# EAGLE library part 802200(DELCOMUSB) (library QuantumOptics)
802200 USB Peripheral, Delcom, 12-bit USB to parallel interface, quick and dirty USB 1.1 peripheral solution.
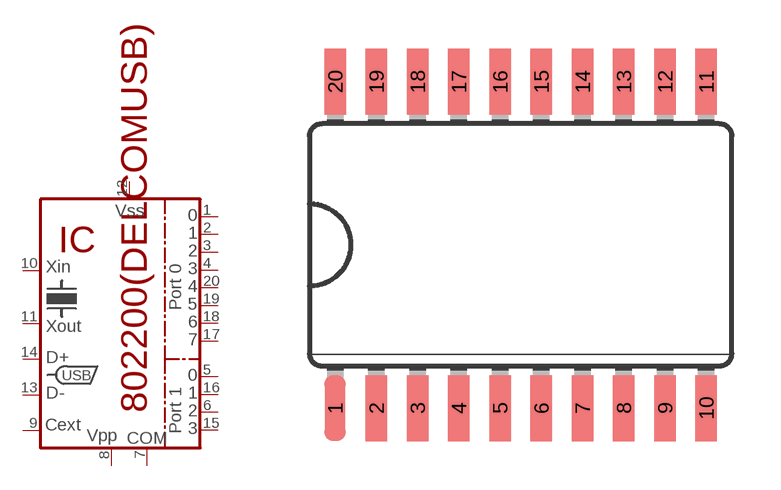
[diagram p9: symbol with the pads of SOIC-20W; footprint SOIC-20W]

Designator prefix IC

## 802200(DELCOMUSB)-SO20  [SOIC-20W]
1  P0.0
2  P0.1
3  P0.2
4  P0.3
5  P1.0
6  P1.2
7  COM
8  VPP
9  CEXT  in
10  XTL1  in
11  XTL2  out
12  VCC
13  D-
14  D+
15  P1.3
16  P1.1
17  P0.7
18  P0.6
19  P0.5
20  P0.4

## Footprint SOIC-20W (pad centres in mm)
TSSOP-20, case 751D-05. This is the wide version, which is the more common.
smd 0.66 x 2.032: 1 -5.715,-5.029; 2 -4.445,-5.029; 3 -3.175,-5.029; 4 -1.905,-5.029; 5 -0.635,-5.029; 6 0.635,-5.029; 7 1.905,-5.029; 8 3.175,-5.029; 9 4.445,-5.029; 10 5.715,-5.029; 11 5.715,5.029; 12 4.445,5.029; 13 3.175,5.029; 14 1.905,5.029; 15 0.635,5.029; 16 -0.635,5.029; 17 -1.905,5.029; 18 -3.175,5.029; 19 -4.445,5.029; 20 -5.715,5.029